# EAGLE library part PRTR5V0U8S (library ic-NXP)
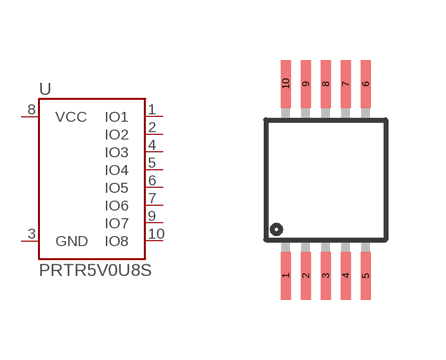
[diagram p6: symbol with the pads of MSOP10; footprint MSOP10]

Designator prefix U

## PRTR5V0U8S  [MSOP10]
1  IO1
2  IO2
3  GND
4  IO3
5  IO4
6  IO5
7  IO6
8  VCC
9  IO7
10  IO8

## Footprint MSOP10 (pad centres in mm)
smd 0.25 x 1.2: 1 -1,-2.4; 2 -0.5,-2.4; 3 0,-2.4; 4 0.5,-2.4; 5 1,-2.4; 6 1,2.4; 7 0.5,2.4; 8 0,2.4; 9 -0.5,2.4; 10 -1,2.4